# EAGLE library part SIPS-8 (library 1114FN28-Kids-Shiled)
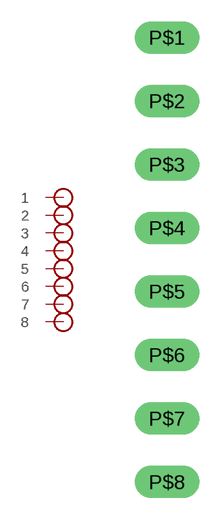
[diagram p4: symbol with the pads of SIPC-7; footprint SIPC-7]

Designator prefix -

## SIPS-8  [SIPC-7]
P$1  1  pas
P$2  2  pas
P$3  3  pas
P$4  4  pas
P$5  5  pas
P$6  6  pas
P$7  7  pas
P$8  8  pas

## Footprint SIPC-7 (pad centres in mm)
drill 0.8 long: P$1 0,8.89; P$2 0,6.35; P$3 0,3.81; P$4 0,1.27; P$5 0,-1.27; P$6 0,-3.81; P$7 0,-6.35; P$8 0,-8.89